# Altium schematic symbol library BR05-PCB.SchLib: 1 symbol
Pins are listed as number, name and electrical type; pins without a type are passive.

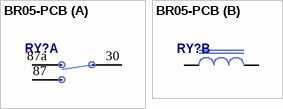
[diagram p0: symbol BR05-PCB]

## BR05-PCB
designator RY?  (value not drawn)
5 Pin Automotive ISO Relay Socket
part A pins: 30 COM, 87 3Y1, 87a NC
part B pins: 85, 86